# Altium footprint library NX2016SA-32M-EXS00A-CS06465.PCBLIB: 1 footprints
Each footprint in its own frame and in the unit in brackets; x right, y up, seen from the top. Pads: shape width x height; smd on the part's side, far side on the other; paste and mask are expansions set on the pad; w line width, h text height; cw(c..) or ccw(c..) is an arc to the next point about the centre after c.
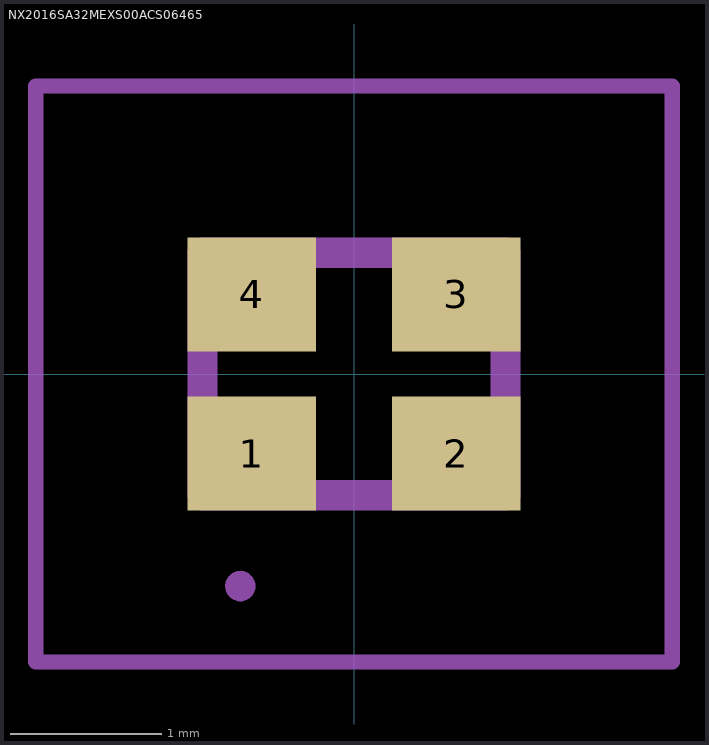
[diagram p0: the footprint, top view; thin cyan lines are the x and y axes]

## NX2016SA32MEXS00ACS06465 [mm]
pads (4):
  rect 0.85x0.75 smd: 1(-0.675,-0.525) 2(0.675,-0.525) 3(0.675,0.525) 4(-0.675,0.525)
tDocu:
  lines w0.1: -2.1,-1.9 2.1,-1.9 2.1,1.9 -2.1,1.9 -2.1,-1.9
  lines w0.2: -1,-0.8 1,-0.8 1,0.8 -1,0.8 -1,-0.8
tPlace:
  lines w0.1: -0.8,-1.4 -0.8,-1.4 ; -0.8,-1.4 ccw(c-0.75,-1.4) -0.7,-1.4 ; -0.8,-1.4 cw(c-0.75,-1.4) -0.7,-1.4 ; -0.7,-1.4 -0.7,-1.4